# Altium footprint library DMN5L06TK.PcbLib: 1 footprints
Each footprint in its own frame and in the unit in brackets; x right, y up, seen from the top. Pads: shape width x height; smd on the part's side, far side on the other; paste and mask are expansions set on the pad; w line width, h text height; cw(c..) or ccw(c..) is an arc to the next point about the centre after c.
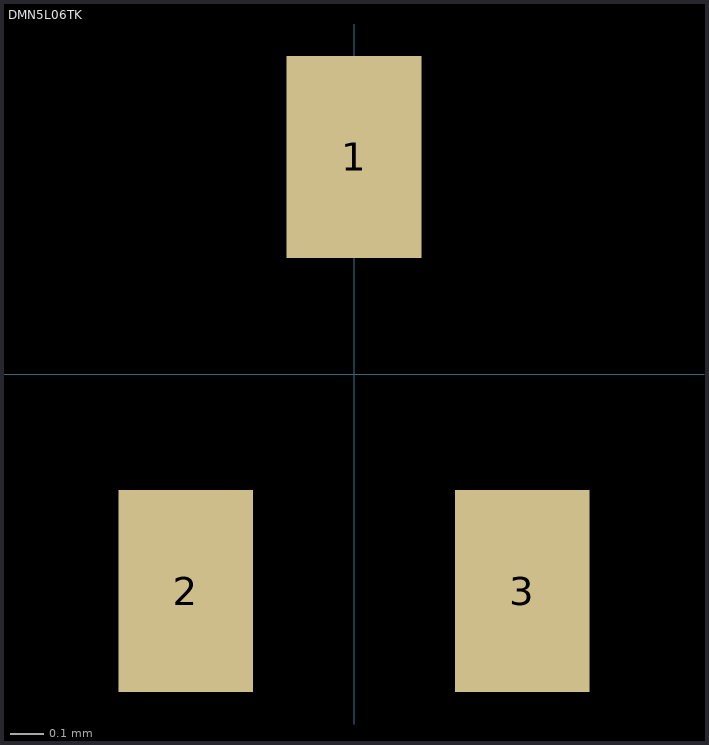
[diagram p0: the footprint, top view; thin cyan lines are the x and y axes]

## DMN5L06TK [mm]
pads (3):
  rect 0.4x0.6 smd: 1(0,0.645) 2(-0.5,-0.645) 3(0.5,-0.645)
3D body "SOT-523-STP.stp": height 0.79, standoff -0.01, extent -0.813,-0.8 0.762,0.8